# Altium footprint library 电源接头.PcbLib: 9 footprints
Each footprint in its own frame and in the unit in brackets; x right, y up, seen from the top. Pads: shape width x height; smd on the part's side, far side on the other; paste and mask are expansions set on the pad; w line width, h text height; cw(c..) or ccw(c..) is an arc to the next point about the centre after c.
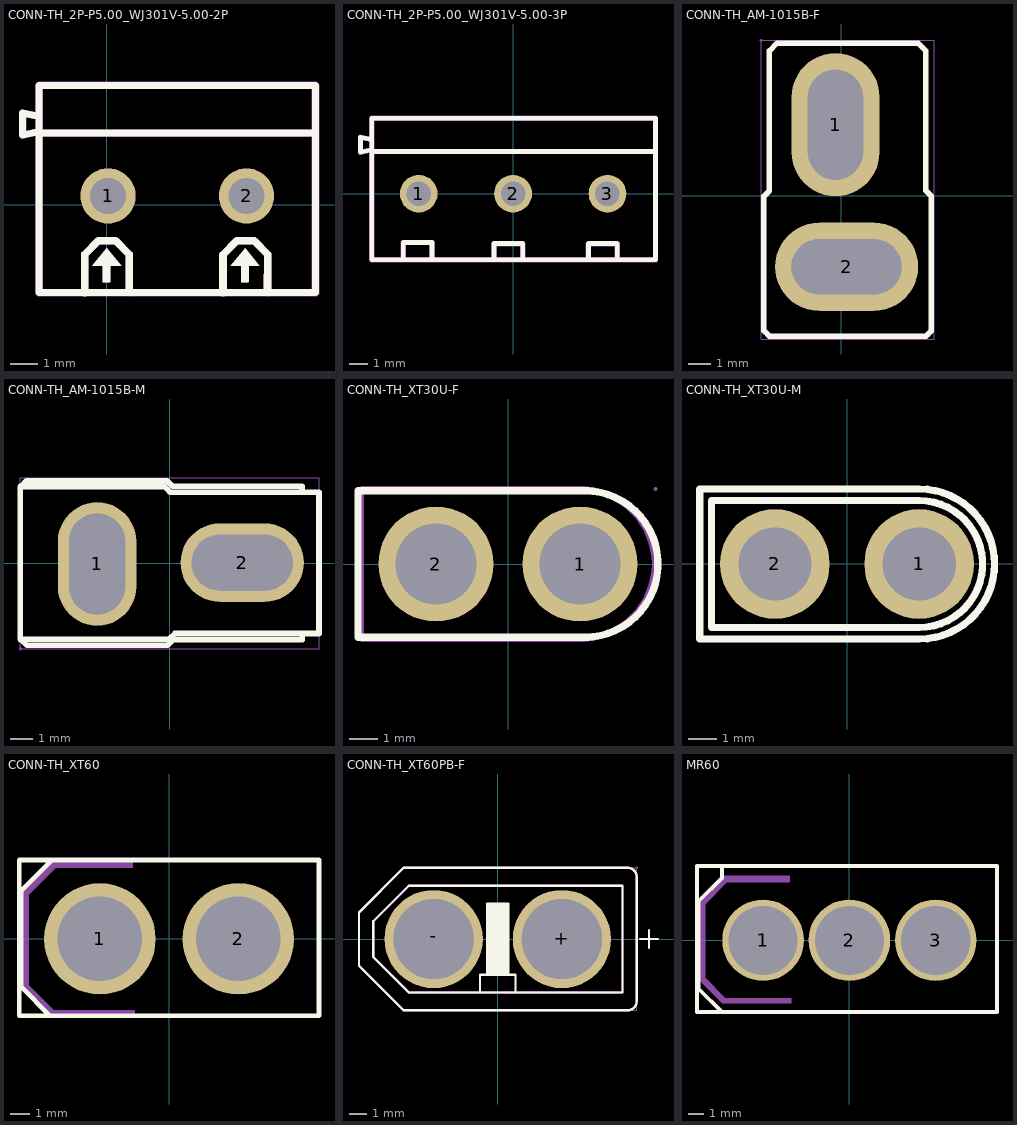
[diagram p0: the footprints below, top view; thin cyan lines are the x and y axes]

## CONN-TH_2P-P5.00_WJ301V-5.00-2P [mm]
pads (2):
  round 2 hole 1.3 paste+0 mask+0.051: 1(0.047,0.326) 2(5.056,0.326)
Top Overlay:
  region: 4.481,-2.199 5.526,-2.199 5.006,-1.559
  region: 4.861,-2.174 4.861,-2.799 4.866,-2.804 5.121,-2.804 5.141,-2.784 5.141,-2.144
  region: 4.079,-3.174 4.079,-1.794 4.079,-1.782 4.084,-1.757 4.093,-1.734 4.107,-1.713 4.116,-1.704 4.611,-1.21 4.62,-1.201 4.641,-1.187 4.664,-1.177 4.688,-1.172 4.701,-1.172 5.331,-1.172 5.343,-1.172 5.368,-1.177 5.391,-1.187 5.412,-1.201 5.421,-1.21 5.916,-1.704 5.925,-1.713 5.939,-1.734 5.948,-1.758 5.953,-1.782 5.953,-1.795 5.943,-3.17 5.942,-3.223 5.868,-3.297 5.762,-3.296 5.688,-3.221 5.689,-3.168 5.698,-1.846 5.278,-1.426 4.753,-1.426 4.333,-1.847 4.333,-3.174 4.333,-3.227 4.258,-3.301 4.153,-3.301 4.079,-3.227
  region: -0.93,-3.174 -0.93,-1.794 -0.93,-1.782 -0.925,-1.757 -0.916,-1.734 -0.902,-1.713 -0.893,-1.704 -0.398,-1.21 -0.389,-1.201 -0.368,-1.187 -0.345,-1.177 -0.321,-1.172 -0.308,-1.172 0.322,-1.172 0.335,-1.172 0.359,-1.177 0.382,-1.187 0.403,-1.201 0.412,-1.21 0.907,-1.704 0.916,-1.713 0.93,-1.734 0.939,-1.758 0.944,-1.782 0.944,-1.795 0.934,-3.17 0.934,-3.223 0.859,-3.297 0.753,-3.296 0.68,-3.221 0.68,-3.168 0.69,-1.846 0.27,-1.426 -0.255,-1.426 -0.676,-1.847 -0.676,-3.174 -0.676,-3.227 -0.75,-3.301 -0.856,-3.301 -0.93,-3.227
  region: -0.148,-2.174 -0.148,-2.799 -0.143,-2.804 0.112,-2.804 0.132,-2.784 0.132,-2.144
  region: -0.528,-2.199 0.517,-2.199 -0.003,-1.559
  lines w0.254: -2.448,2.6 7.552,2.6 ; -2.448,2.658 -3.048,2.521 -3.048,3.326 -2.448,3.205 ; -2.448,-3.175 -2.448,4.326 7.552,4.326 7.552,-3.175 -2.448,-3.175
Bottom Component Outline:
  region: 4.756,0.826 5.356,0.826 5.356,-0.174 4.756,-0.174
  region: -0.253,0.826 0.347,0.826 0.347,-0.174 -0.253,-0.174
  region: -2.388,-3.175 -2.388,-3.15 -2.423,-3.115 -2.473,-3.115 -2.508,-3.15 -2.508,-3.175 -2.508,-3.2 -2.473,-3.235 -2.423,-3.235 -2.388,-3.2
  lines w0.051: -2.448,-3.175 7.552,-3.175 7.552,4.325 -2.448,4.325 -2.448,-3.175
Mechanical 6:
  drawing of 10 lines, arcs and shapes, not listed

## CONN-TH_2P-P5.00_WJ301V-5.00-3P [mm]
pads (3):
  round 2 hole 1.3 paste+0 mask+0.051: 1(-5.009,0) 2(0,0) 3(5.009,0)
Top Overlay:
  lines w0.254: -7.504,-3.501 -7.504,4 7.566,4 7.566,-3.501 ; -7.504,-3.501 2.496,-3.501 7.566,-3.501 ; -7.504,2.24 7.566,2.24 ; -7.504,2.332 -8.104,2.195 -8.104,3 -7.504,2.879 ; -5.83,-3.471 -5.83,-2.585 -4.3,-2.585 -4.3,-3.471 ; -1.011,-3.501 -1.011,-2.65 0.518,-2.65 0.518,-3.501 ; 3.997,-3.501 3.997,-2.65 5.527,-2.65 5.527,-3.501
Bottom Component Outline:
  region: -7.444,-3.501 -7.444,-3.476 -7.48,-3.441 -7.529,-3.441 -7.564,-3.476 -7.564,-3.501 -7.564,-3.526 -7.529,-3.561 -7.48,-3.561 -7.444,-3.526 -7.444,-3.501
  region: -0.3,0.5 0.3,0.5 0.3,-0.5 -0.3,-0.5
  region: -5.309,0.5 -4.709,0.5 -4.709,-0.5 -5.309,-0.5
  region: 4.709,0.5 5.309,0.5 5.309,-0.5 4.709,-0.5
  lines w0.051: -7.5,-3.501 -7.5,3.999 7.5,3.999 7.5,-3.501 -7.5,-3.501
Mechanical 6:
  drawing of 8 lines, arcs and shapes, not listed

## CONN-TH_AM-1015B-F [mm]
pads (2):
  oval 4x6.5 hole 2.5 slot 5 at 90 deg copper offset 0.001,-0.001: 1(-0.251,3.225)
  oval 6.5x4 hole 2.5 slot 5 at 0 deg: 2(0.25,-3.225)
Top Overlay:
  lines w0.254: 3.4,6.926 -2.9,6.926 -3.25,6.576 -3.25,0.276 -3.25,0.225 -3.499,-0.024 -3.499,-6.125 -3.324,-6.3 -3.25,-6.374 3.8,-6.374 ; 3.5,6.926 3.85,6.576 3.85,0.276 3.85,0.225 4.099,-0.024 4.099,-6.125 3.924,-6.3 3.85,-6.374
Mechanical 15:
  region: -1.25,1.974 -1.25,4.474 0.75,4.474 0.75,1.974
  region: 1.5,-4.225 -1,-4.225 -1,-2.225 1.5,-2.225
  region: -3.566,7.053 -3.566,7.077 -3.601,7.113 -3.651,7.113 -3.686,7.077 -3.686,7.053 -3.686,7.028 -3.651,6.993 -3.601,6.993 -3.566,7.028 -3.566,7.053
  lines w0.051: -3.626,-6.501 4.226,-6.501 4.226,7.053 -3.626,7.053 -3.626,-6.501

## CONN-TH_AM-1015B-M [mm]
pads (2):
  oval 3.5x5.5 hole 2.5 slot 4.5 at 90 deg: 1(-3.231,-0.029)
  oval 5.5x3.5 hole 2.5 slot 4.5 at 0 deg: 2(3.231,0.029)
Top Overlay:
  lines w0.254: -6.651,-3.381 -0.021,-3.38 0.23,-3.129 6.649,-3.129 6.649,3.171 ; -6.651,-3.359 -6.651,3.401 ; -6.641,-3.394 -6.611,-3.394 -6.351,-3.654 -0.111,-3.654 0.139,-3.404 5.899,-3.404 5.899,-3.144 ; 5.889,3.171 5.889,3.431 0.129,3.431 -0.121,3.681 -6.361,3.681 -6.621,3.421 -6.651,3.421 -0.232,3.422 0.019,3.171 6.649,3.17
Mechanical 15:
  region: -6.59,-3.8 -6.59,-3.775 -6.625,-3.74 -6.675,-3.74 -6.71,-3.775 -6.71,-3.8 -6.71,-3.825 -6.675,-3.86 -6.625,-3.86 -6.59,-3.825 -6.59,-3.8
  region: -3.881,1.521 -2.581,1.521 -2.581,-1.579 -3.881,-1.579
  region: 4.781,0.679 4.781,-0.621 1.681,-0.621 1.681,0.679
  lines w0.051: -6.65,-3.8 -6.65,3.8 6.65,3.8 6.65,-3.8 -6.65,-3.8

## CONN-TH_XT30U-F [mm]
pads (2):
  round 4 hole 2.8: 1(2.5,0) 2(-2.5,0)
Top Overlay:
  lines w0.254: 2.667,-2.54 ccw(c2.667,0) 2.667,2.54 ; 2.794,-2.54 -5.207,-2.54 -5.207,2.54 2.794,2.54
Mechanical 6:
  region: 5,0 4.988,0.245 4.892,0.726 4.705,1.179 4.432,1.586 4.086,1.933 3.678,2.205 3.226,2.392 2.745,2.488 2.5,2.5 2.5,2.7 2.677,2.7 3.028,2.654 3.37,2.562 3.697,2.427 4.003,2.25 4.284,2.034 4.534,1.784 4.75,1.503 4.927,1.197 5.062,0.87 5.154,0.528 5.2,0.177 5.2,0
  region: 2.5,-2.5 2.745,-2.488 3.226,-2.392 3.678,-2.205 4.086,-1.932 4.432,-1.586 4.705,-1.178 4.892,-0.726 4.988,-0.245 5,0 5.2,0 5.2,-0.177 5.154,-0.528 5.062,-0.87 4.927,-1.197 4.75,-1.503 4.534,-1.784 4.284,-2.034 4.003,-2.25 3.697,-2.427 3.37,-2.562 3.028,-2.654 2.677,-2.7 2.5,-2.7
  region: 2.5,2.7 -5.1,2.7 -5.2,2.6 -5.2,-2.6 -5.1,-2.7 2.5,-2.7 2.5,-2.5 -5,-2.5 -5,2.5 2.5,2.5
Mechanical 15:
  region: 3.5,0 3.5,0.132 3.432,0.386 3.3,0.614 3.114,0.8 2.886,0.932 2.632,1 2.368,1 2.114,0.932 1.886,0.8 1.7,0.614 1.568,0.386 1.5,0.132 1.5,0 1.5,-0.132 1.568,-0.386 1.7,-0.614 1.886,-0.8 2.114,-0.932 2.368,-1 2.632,-1 2.886,-0.932 3.114,-0.8 3.3,-0.614 3.432,-0.386 3.5,-0.132 3.5,0
  region: -1.5,0 -1.5,0.132 -1.568,0.386 -1.7,0.614 -1.886,0.8 -2.114,0.932 -2.368,1 -2.632,1 -2.886,0.932 -3.114,0.8 -3.3,0.614 -3.432,0.386 -3.5,0.132 -3.5,0 -3.5,-0.132 -3.432,-0.386 -3.3,-0.614 -3.114,-0.8 -2.886,-0.932 -2.632,-1 -2.368,-1 -2.114,-0.932 -1.886,-0.8 -1.7,-0.614 -1.568,-0.386 -1.5,-0.132 -1.5,0
  region: 5.174,2.6 5.174,2.625 5.139,2.66 5.089,2.66 5.054,2.625 5.054,2.6 5.054,2.575 5.089,2.54 5.139,2.54 5.174,2.575 5.174,2.6
  lines w0.051: -5.1,-2.6 2.514,-2.6 ccw(c2.514,0) 5.114,0 ccw(c2.514,0) 2.514,2.6 -5.08,2.54 ccw(c-5.08,2.52) -5.1,2.52 -5.1,-2.6

## CONN-TH_XT30U-M [mm]
pads (2):
  round 3.8 hole 2.54 paste+0 mask+0.05: 1(2.5,0) 2(-2.5,0)
Top Overlay:
  lines w0.254: 2.5,2.2 cw(c2.5,0) 2.501,-2.2 ; 2.5,2.2 2,2.2 -4.7,2.2 -4.7,-2.2 2,-2.2 2.501,-2.2 ; 2.5,2.2 2.5,2.2 ; 2.501,-2.2 2.501,-2.2 ; -5.1,-2.6 -5.1,2.6 2.514,2.6 cw(c2.514,0) 2.514,-2.6 -5.1,-2.6
Mechanical 6:
  region: 5,0 4.988,0.245 4.892,0.726 4.705,1.178 4.432,1.586 4.086,1.933 3.678,2.205 3.226,2.392 2.745,2.488 2.5,2.5 2.5,2.7 2.677,2.7 3.028,2.654 3.37,2.562 3.697,2.427 4.003,2.25 4.284,2.034 4.534,1.784 4.75,1.503 4.927,1.197 5.062,0.87 5.154,0.528 5.2,0.177 5.2,0
  region: 2.5,-2.5 2.745,-2.488 3.226,-2.392 3.678,-2.205 4.086,-1.933 4.432,-1.586 4.705,-1.178 4.892,-0.726 4.988,-0.245 5,0 5.2,0 5.2,-0.177 5.154,-0.528 5.062,-0.87 4.927,-1.197 4.75,-1.503 4.534,-1.784 4.284,-2.034 4.003,-2.25 3.697,-2.427 3.37,-2.562 3.028,-2.654 2.677,-2.7 2.5,-2.7
  region: 2.5,2.7 -5.1,2.7 -5.2,2.6 -5.2,-2.6 -5.1,-2.7 2.5,-2.7 2.5,-2.5 -5,-2.5 -5,2.5 2.5,2.5
Mechanical 15:
  region: -5.04,-2.6 -5.04,-2.575 -5.075,-2.54 -5.125,-2.54 -5.16,-2.575 -5.16,-2.6 -5.16,-2.625 -5.125,-2.66 -5.075,-2.66 -5.04,-2.625 -5.04,-2.6
  region: 3.5,0 3.5,0.132 3.432,0.386 3.3,0.614 3.114,0.8 2.886,0.932 2.632,1 2.368,1 2.114,0.932 1.886,0.8 1.7,0.614 1.568,0.386 1.5,0.132 1.5,0 1.5,-0.132 1.568,-0.386 1.7,-0.614 1.886,-0.8 2.114,-0.932 2.368,-1 2.632,-1 2.886,-0.932 3.114,-0.8 3.3,-0.614 3.432,-0.386 3.5,-0.132 3.5,0
  region: -1.5,0 -1.5,0.132 -1.568,0.386 -1.7,0.614 -1.886,0.8 -2.114,0.932 -2.368,1 -2.632,1 -2.886,0.932 -3.114,0.8 -3.3,0.614 -3.432,0.386 -3.5,0.132 -3.5,0 -3.5,-0.132 -3.432,-0.386 -3.3,-0.614 -3.114,-0.8 -2.886,-0.932 -2.632,-1 -2.368,-1 -2.114,-0.932 -1.886,-0.8 -1.7,-0.614 -1.568,-0.386 -1.5,-0.132 -1.5,0
  lines w0.051: -5.1,-2.6 -5.1,2.52 cw(c-5.08,2.52) -5.08,2.54 2.514,2.6 cw(c2.514,0) 5.114,0 cw(c2.514,0) 2.514,-2.6 -5.1,-2.6

## CONN-TH_XT60 [mm]
pads (2):
  round 5.8 hole 4.4 paste+0 mask+0.05: 1(-3.6,0) 2(3.6,0)
Top Overlay:
  lines w0.254: -5.999,-4 -7.8,-4 -7.8,4.1 -6.101,4.1 ; -5.301,4.1 7.8,4.1 7.8,-4 -6.2,-4 -7.699,-2.499 -7.699,2.499 -6.101,4.1 ; -5.199,4.1 -6.101,4.1
Mechanical 6:
  region: -1.9,4.1 -6.1,4.1 -7.7,2.5 -7.7,-2.5 -6.2,-4 -1.8,-4 -1.8,-3.7 -6,-3.7 -7.3,-2.4 -7.3,2.3 -5.9,3.7 -1.9,3.7
Mechanical 15:
  region: -7.69,-4.05 -7.69,-4.025 -7.725,-3.99 -7.775,-3.99 -7.81,-4.025 -7.81,-4.05 -7.81,-4.075 -7.775,-4.11 -7.725,-4.11 -7.69,-4.075 -7.69,-4.05
  region: -1.85,0 -1.85,0.172 -1.917,0.51 -2.049,0.829 -2.241,1.116 -2.484,1.359 -2.771,1.551 -3.089,1.683 -3.428,1.75 -3.772,1.75 -4.11,1.683 -4.429,1.551 -4.716,1.359 -4.959,1.116 -5.151,0.829 -5.283,0.51 -5.35,0.172 -5.35,0 -5.35,-0.172 -5.283,-0.51 -5.151,-0.829 -4.959,-1.116 -4.716,-1.359 -4.429,-1.551 -4.11,-1.683 -3.772,-1.75 -3.428,-1.75 -3.089,-1.683 -2.771,-1.551 -2.484,-1.359 -2.241,-1.116 -2.049,-0.829 -1.917,-0.51 -1.85,-0.172 -1.85,0
  region: 5.35,0 5.35,0.172 5.283,0.51 5.151,0.829 4.959,1.116 4.716,1.359 4.429,1.551 4.11,1.683 3.772,1.75 3.428,1.75 3.089,1.683 2.771,1.551 2.484,1.359 2.241,1.116 2.049,0.829 1.917,0.51 1.85,0.172 1.85,0 1.85,-0.172 1.917,-0.51 2.049,-0.829 2.241,-1.116 2.484,-1.359 2.771,-1.551 3.089,-1.683 3.428,-1.75 3.772,-1.75 4.11,-1.683 4.429,-1.551 4.716,-1.359 4.959,-1.116 5.151,-0.829 5.283,-0.51 5.35,-0.172 5.35,0
  lines w0.051: -7.75,-4.05 -7.75,4.05 7.75,4.05 7.75,-4.05 -7.75,-4.05

## CONN-TH_XT60PB-F [mm]
pads (2):
  round 5.516 hole 4.5 slot 4.505 at 0 deg: +(3.6,0) -(-3.6,0)
Top Overlay:
  lines w0.127: 8,0 9,0 ; 8.5,-0.5 8.5,0.5 ; -1,-3 -5,-3 -7,-1 -7,1 -5,3 7,3 7,-3 1,-3 ; -1,-3 1,-3 ; -1,-3 -1,-2 -0.6,-2 ; -0.6,-2 -0.5,-2 ; -0.6,-2 -0.6,2 -0.5,2 ; -0.5,-2 -0.4,-2 ; -0.5,-2 -0.5,2 ; -0.5,2 -0.4,2 ; -0.4,-2 -0.3,-2 ; -0.4,-2 -0.4,2 ; -0.4,2 -0.3,2 ; -0.3,-2 -0.2,-2 ; -0.3,-2 -0.3,2 ; -0.3,2 -0.2,2 ; -0.2,-2 -0.1,-2 ; -0.2,-2 -0.2,2 ; -0.2,2 -0.1,2 ; -0.1,-2 0,-2 ; -0.1,-2 -0.1,2 ; -0.1,2 0,2 ; 0,-2 0.1,-2 ; 0,-2 0,2 ; 0,2 0.1,2 ; 0.1,-2 0.2,-2 ; 0.1,-2 0.1,2 ; 0.1,2 0.2,2 ; 0.2,-2 0.3,-2 ; 0.2,-2 0.2,2 ; 0.2,2 0.3,2 ; 0.3,-2 0.4,-2 ; 0.3,-2 0.3,2 ; 0.3,2 0.4,2 ; 0.4,-2 0.5,-2 ; 0.4,-2 0.4,2 ; 0.4,2 0.5,2 ; 0.5,-2 0.6,-2 ; 0.5,-2 0.5,2 ; 0.5,2 0.6,2 0.6,-2 ; 0.6,-2 1,-2 1,-3 ; -7.8,-1.5 -5.3,-4 7.3,-4 ccw(c7.3,-3.5) 7.8,-3.5 7.8,3.5 ccw(c7.3,3.5) 7.3,4 -5.3,4 -7.8,1.5 -7.8,-1.5
Mechanical 6:
  region: 7.29,3.95 -5.28,3.95 -7.75,1.48 -7.75,-1.48 -5.28,-3.95 7.27,-3.95 7.27,-4.05 -5.32,-4.05 -7.85,-1.52 -7.85,1.52 -5.32,4.05 7.29,4.05
  region: 7.3,4.05 7.409,4.05 7.612,3.966 7.766,3.812 7.85,3.609 7.85,3.5 7.85,3.44 7.75,3.44 7.75,3.5 7.741,3.588 7.674,3.75 7.55,3.874 7.388,3.941 7.3,3.95
  region: 7.75,3.43 7.75,-3.48 7.741,-3.572 7.671,-3.741 7.541,-3.871 7.372,-3.941 7.28,-3.95 7.28,-4.05 7.393,-4.05 7.603,-3.963 7.763,-3.803 7.85,-3.593 7.85,-3.48 7.85,3.43
  region: 6.94,2.94 -4.98,2.94 -6.94,0.98 -6.94,-0.98 -4.98,-2.94 -4.91,-2.94 -4.91,-3.06 -5.01,-3.06 -5.08,-2.99 -7.05,-1.02 -7.05,1.01 -5.01,3.05 -4.44,3.05 -4.43,3.06 6.94,3.06 6.97,3.06 7,3.06 7.06,3 7.06,2.96 7.06,-3 7,-3.06 -4.9,-3.06 -4.9,-2.94 6.95,-2.94 6.95,2.94
Mechanical 15:
  region: 7.86,4 7.86,4.025 7.825,4.06 7.775,4.06 7.74,4.025 7.74,4 7.74,3.975 7.775,3.94 7.825,3.94 7.86,3.975 7.86,4
  region: 5.6,0 5.6,0.197 5.523,0.583 5.372,0.947 5.153,1.275 4.875,1.553 4.547,1.772 4.183,1.923 3.797,2 3.403,2 3.017,1.923 2.653,1.772 2.325,1.553 2.046,1.275 1.828,0.947 1.677,0.583 1.6,0.197 1.6,0 1.6,-0.197 1.677,-0.583 1.828,-0.947 2.046,-1.275 2.325,-1.553 2.653,-1.772 3.017,-1.923 3.403,-2 3.797,-2 4.183,-1.923 4.547,-1.772 4.875,-1.553 5.153,-1.275 5.372,-0.947 5.523,-0.583 5.6,-0.197 5.6,0
  region: -1.6,0 -1.6,0.197 -1.677,0.583 -1.828,0.947 -2.046,1.275 -2.325,1.553 -2.653,1.772 -3.017,1.923 -3.403,2 -3.797,2 -4.183,1.923 -4.547,1.772 -4.875,1.553 -5.153,1.275 -5.372,0.947 -5.523,0.583 -5.6,0.197 -5.6,0 -5.6,-0.197 -5.523,-0.583 -5.372,-0.947 -5.153,-1.275 -4.875,-1.553 -4.547,-1.772 -4.183,-1.923 -3.797,-2 -3.403,-2 -3.017,-1.923 -2.653,-1.772 -2.325,-1.553 -2.046,-1.275 -1.828,-0.947 -1.677,-0.583 -1.6,-0.197 -1.6,0
  lines w0.051: -7.8,-1.5 -5.3,-4 -3.81,-4 7.8,-4 7.8,1.905 7.8,4 6.985,4 -5.207,4 -5.3,4 -5.348,3.951 -7.8,1.5 -7.8,-1.5

## MR60 [mm]
pads (3):
  round 5.2 hole 4.4 paste+0 mask+0.05: 1(-5.5,0) 2(0,0) 3(5.5,0)
Top Overlay:
  lines w0.254: -8.128,4.735 -7.226,4.735 ; -7.899,-4.572 -9.7,-4.572 -9.7,4.736 -8.128,4.736 -8.128,3.97 -9.599,2.499 -9.599,-3.099 -8.128,-4.572 9.403,-4.572 ; -7.201,4.735 9.403,4.735 ; 9.403,-4.508 9.403,4.691
Bottom Component Outline:
  region: 7.223,0.002 7.223,0.175 7.156,0.513 7.024,0.831 6.832,1.118 6.589,1.362 6.302,1.553 5.984,1.685 5.645,1.752 5.301,1.752 4.963,1.685 4.644,1.553 4.358,1.362 4.114,1.118 3.922,0.831 3.79,0.513 3.723,0.175 3.723,0.002 3.723,-0.17 3.79,-0.508 3.922,-0.826 4.114,-1.113 4.358,-1.357 4.644,-1.548 4.963,-1.68 5.301,-1.748 5.645,-1.748 5.984,-1.68 6.302,-1.548 6.589,-1.357 6.832,-1.113 7.024,-0.826 7.156,-0.508 7.223,-0.17
  region: 1.723,0.002 1.723,0.175 1.656,0.513 1.524,0.831 1.332,1.118 1.089,1.362 0.802,1.553 0.484,1.685 0.145,1.752 -0.199,1.752 -0.537,1.685 -0.856,1.553 -1.142,1.362 -1.386,1.118 -1.578,0.831 -1.71,0.513 -1.777,0.175 -1.777,0.002 -1.777,-0.17 -1.71,-0.508 -1.578,-0.826 -1.386,-1.113 -1.142,-1.357 -0.856,-1.548 -0.537,-1.68 -0.199,-1.748 0.145,-1.748 0.484,-1.68 0.802,-1.548 1.089,-1.357 1.332,-1.113 1.524,-0.826 1.656,-0.508 1.723,-0.17
  region: -3.75,0 -3.75,0.172 -3.817,0.51 -3.949,0.829 -4.141,1.116 -4.384,1.359 -4.671,1.551 -4.99,1.683 -5.328,1.75 -5.672,1.75 -6.011,1.683 -6.329,1.551 -6.616,1.359 -6.859,1.116 -7.051,0.829 -7.183,0.51 -7.25,0.172 -7.25,0 -7.25,-0.172 -7.183,-0.51 -7.051,-0.829 -6.859,-1.116 -6.616,-1.359 -6.329,-1.551 -6.011,-1.683 -5.672,-1.75 -5.328,-1.75 -4.99,-1.683 -4.671,-1.551 -4.384,-1.359 -4.141,-1.116 -3.949,-0.829 -3.817,-0.51 -3.75,-0.172
  region: -9.59,-4.05 -9.59,-4.025 -9.625,-3.99 -9.675,-3.99 -9.71,-4.025 -9.71,-4.05 -9.71,-4.075 -9.675,-4.11 -9.625,-4.11 -9.59,-4.075
  lines w0.051: -9.65,-4.445 9.403,-4.445 9.403,4.699 -9.65,4.699 -9.65,-4.445
Mechanical 6:
  region: -3.8,4.1 -8,4.1 -9.6,2.5 -9.6,-2.5 -8.1,-4 -3.7,-4 -3.7,-3.7 -7.9,-3.7 -9.2,-2.4 -9.2,2.3 -7.8,3.7 -3.8,3.7